# EAGLE library part MUX36S16I (library Bauteile)
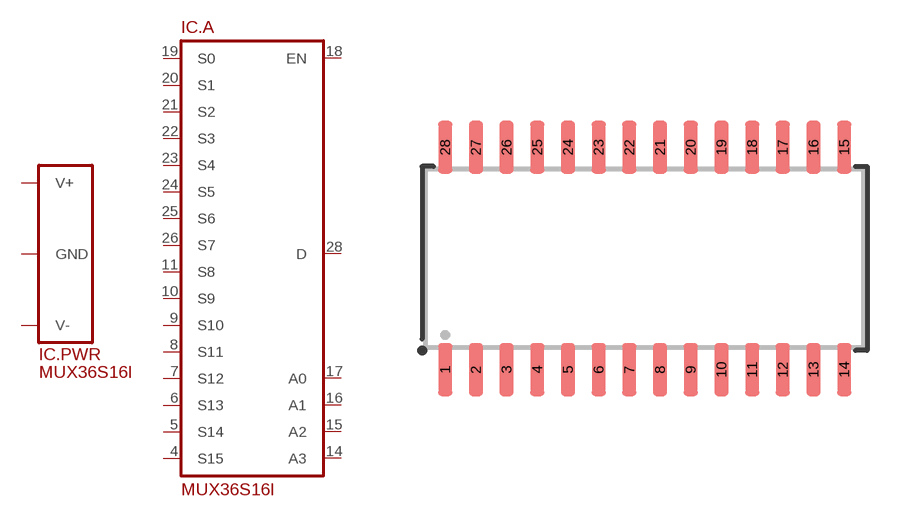
[diagram p184: symbol with the pads of SO28; footprint SO28]

Designator prefix IC; gates .PWR=SUPPLY_V+/GND/V- .A=MUX36S16I

## MUX36S16I  [SO28]
1  .PWR:V+
4  .A:S15
5  .A:S14
6  .A:S13
7  .A:S12
8  .A:S11
9  .A:S10
10  .A:S9
11  .A:S8
12  .PWR:GND
14  .A:A3
15  .A:A2
16  .A:A1
17  .A:A0
18  .A:EN
19  .A:S0
20  .A:S1
21  .A:S2
22  .A:S3
23  .A:S4
24  .A:S5
25  .A:S6
26  .A:S7
27  .PWR:V-
28  .A:D

## Footprint SO28 (pad centres in mm)
smd 0.6 x 2.2: 1 -8.255,-4.6; 2 -6.985,-4.6; 3 -5.715,-4.6; 4 -4.445,-4.6; 5 -3.175,-4.6; 6 -1.905,-4.6; 7 -0.635,-4.6; 8 0.635,-4.6; 9 1.905,-4.6; 10 3.175,-4.6; 11 4.445,-4.6; 12 5.715,-4.6; 13 6.985,-4.6; 14 8.255,-4.6; 15 8.255,4.6; 16 6.985,4.6; 17 5.715,4.6; 18 4.445,4.6; 19 3.175,4.6; 20 1.905,4.6; 21 0.635,4.6; 22 -0.635,4.6; 23 -1.905,4.6; 24 -3.175,4.6; 25 -4.445,4.6; 26 -5.715,4.6; 27 -6.985,4.6; 28 -8.255,4.6